# EAGLE library part H_BRIDGE (library library)
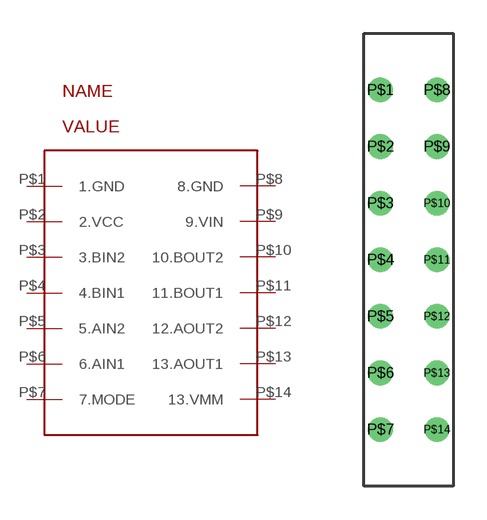
[diagram p7: symbol with the pads of H_BRIDGE; footprint H_BRIDGE]

Designator prefix -

## H_BRIDGE  [H_BRIDGE]
P$1  1.GND
P$2  2.VCC
P$3  3.BIN2
P$4  4.BIN1
P$5  5.AIN2
P$6  6.AIN1
P$7  7.MODE
P$8  8.GND
P$9  9.VIN
P$10  10.BOUT2
P$11  11.BOUT1
P$12  12.AOUT2
P$13  13.AOUT1
P$14  13.VMM

## Footprint H_BRIDGE (pad centres in mm)
drill 0.6: P$1 -1.27,7.62; P$2 -1.27,5.08; P$3 -1.27,2.54; P$4 -1.27,0; P$5 -1.27,-2.54; P$6 -1.27,-5.08; P$7 -1.27,-7.62; P$8 1.27,7.62; P$9 1.27,5.08; P$10 1.27,2.54; P$11 1.27,0; P$12 1.27,-2.54; P$13 1.27,-5.08; P$14 1.27,-7.62